# Altium integrated library FPGA Generic.IntLib: 1651 symbols (part 6 of 20)
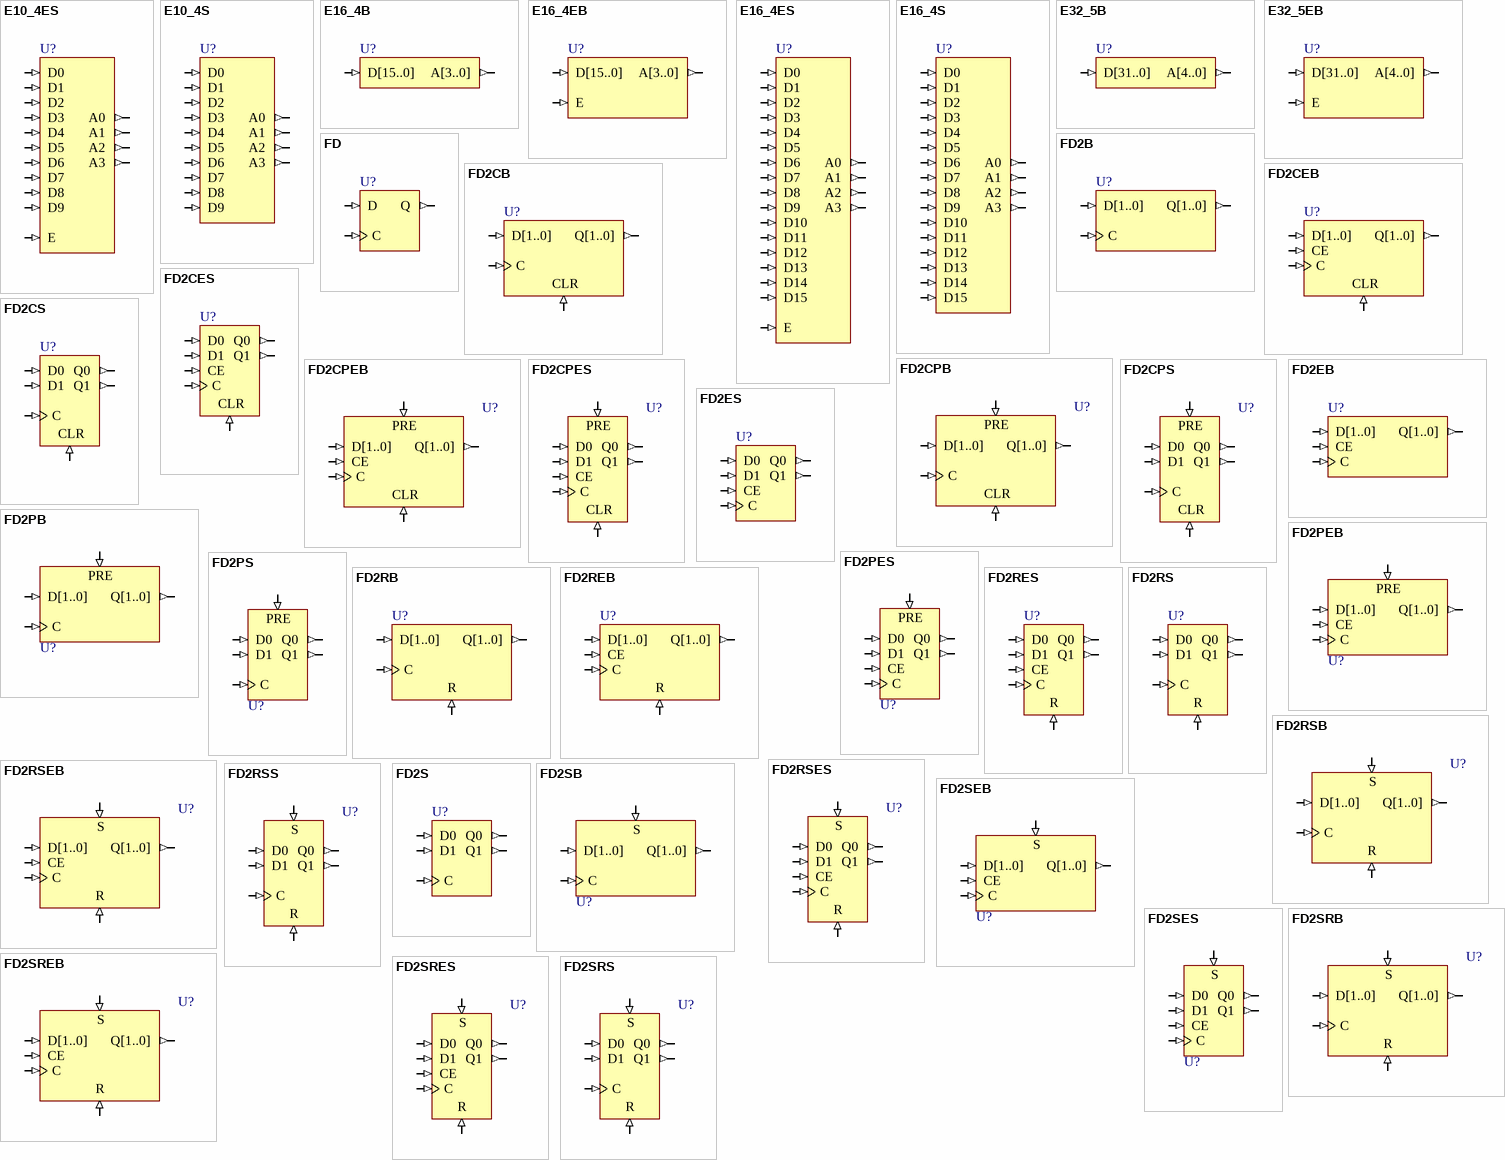
[diagram p48: symbols E10_4ES to FD2SRS]

## FD2RSS
designator U?
2-Bit D-Type Flip-Flop with Synchronous Reset and Set, Single Pin Version; SubClass: FD; ClockTrigger: Rising; PortSize: 2; ArchiveName: GENERIC; VHDLIB_SIM: GENERIC_LIB; Published: 29-Jan-2004; Publisher: Altium Limited; LastRevisionNo: 1.00.00; HelpURL: CR0118 FPGA Generic Library Guide.pdf#page=205; ComponentLink1URL: CR0133 FPGA Flip Flop Resource Usage.pdf#page=27; ComponentLink1Description: Core &Resource Usage; FunctionalClass: Flip-Flop; Reset: Synchronous; Set: Synchronous; PortStyle: Single Pin Version
pins: C (in), D0 (in), D1 (in), Q0 (out), Q1 (out), R (in), S (in)

## FD2S
designator U?
2-Bit D-Type Flip-Flop, Single Pin Version; SubClass: FD; ClockTrigger: Rising; PortSize: 2; ArchiveName: GENERIC; VHDLIB_SIM: GENERIC_LIB; Published: 29-Jan-2004; Publisher: Altium Limited; LastRevisionNo: 1.00.00; HelpURL: CR0118 FPGA Generic Library Guide.pdf#page=170; ComponentLink1URL: CR0133 FPGA Flip Flop Resource Usage.pdf#page=28; ComponentLink1Description: Core &Resource Usage; FunctionalClass: Flip-Flop; PortStyle: Single Pin Version
pins: C (in), D0 (in), D1 (in), Q0 (out), Q1 (out)

## FD2SB
designator U?
2-Bit D-Type Flip-Flop with Synchronous Set, Bus Version; SubClass: FD; ClockTrigger: Rising; PortSize: 2; ArchiveName: GENERIC; VHDLIB_SIM: GENERIC_LIB; Published: 29-Jan-2004; Publisher: Altium Limited; LastRevisionNo: 1.00.00; HelpURL: CR0118 FPGA Generic Library Guide.pdf#page=213; ComponentLink1URL: CR0133 FPGA Flip Flop Resource Usage.pdf#page=29; ComponentLink1Description: Core &Resource Usage; FunctionalClass: Flip-Flop; Set: Synchronous; PortStyle: Bus Version
pins: C (in), D[1..0] (in), Q[1..0] (out), S (in)

## FD2SEB
designator U?
2-Bit D-Type Flip-Flop with Clock Enable and Synchronous Set, Bus Version; SubClass: FD; ClockTrigger: Rising; Enable: High; PortSize: 2; ArchiveName: GENERIC; VHDLIB_SIM: GENERIC_LIB; Published: 29-Jan-2004; Publisher: Altium Limited; LastRevisionNo: 1.00.00; HelpURL: CR0118 FPGA Generic Library Guide.pdf#page=215; ComponentLink1URL: CR0133 FPGA Flip Flop Resource Usage.pdf#page=30; ComponentLink1Description: Core &Resource Usage; FunctionalClass: Flip-Flop; Set: Synchronous; PortStyle: Bus Version
pins: C (in), CE (in), D[1..0] (in), Q[1..0] (out), S (in)

## FD2SES
designator U?
2-Bit D-Type Flip-Flop with Clock Enable and Synchronous Set, Single Pin Version; SubClass: FD; ClockTrigger: Rising; Enable: High; PortSize: 2; ArchiveName: GENERIC; VHDLIB_SIM: GENERIC_LIB; Published: 29-Jan-2004; Publisher: Altium Limited; LastRevisionNo: 1.00.00; HelpURL: CR0118 FPGA Generic Library Guide.pdf#page=215; ComponentLink1URL: CR0133 FPGA Flip Flop Resource Usage.pdf#page=31; ComponentLink1Description: Core &Resource Usage; FunctionalClass: Flip-Flop; Set: Synchronous; PortStyle: Single Pin Version
pins: C (in), CE (in), D0 (in), D1 (in), Q0 (out), Q1 (out), S (in)

## FD2SRB
designator U?
2-Bit D-Type Flip-Flop with Synchronous Set and Reset, Bus Version; SubClass: FD; ClockTrigger: Rising; PortSize: 2; ArchiveName: GENERIC; VHDLIB_SIM: GENERIC_LIB; Published: 29-Jan-2004; Publisher: Altium Limited; LastRevisionNo: 1.00.00; HelpURL: CR0118 FPGA Generic Library Guide.pdf#page=220; ComponentLink1URL: CR0133 FPGA Flip Flop Resource Usage.pdf#page=32; ComponentLink1Description: Core &Resource Usage; FunctionalClass: Flip-Flop; Reset: Synchronous; Set: Synchronous; PortStyle: Bus Version
pins: C (in), D[1..0] (in), Q[1..0] (out), R (in), S (in)

## FD2SREB
designator U?
2-Bit D-Type Flip-Flop with Synchronous Set and Reset and Clock Enable, Bus Version; SubClass: FD; ClockTrigger: Rising; Enable: High; PortSize: 2; ArchiveName: GENERIC; VHDLIB_SIM: GENERIC_LIB; Published: 29-Jan-2004; Publisher: Altium Limited; LastRevisionNo: 1.00.00; HelpURL: CR0118 FPGA Generic Library Guide.pdf#page=223; ComponentLink1URL: CR0133 FPGA Flip Flop Resource Usage.pdf#page=33; ComponentLink1Description: Core &Resource Usage; FunctionalClass: Flip-Flop; Reset: Synchronous; Set: Synchronous; PortStyle: Bus Version
pins: C (in), CE (in), D[1..0] (in), Q[1..0] (out), R (in), S (in)

## FD2SRES
designator U?
2-Bit D-Type Flip-Flop with Synchronous Set and Reset and Clock Enable, Single Pin Version; SubClass: FD; ClockTrigger: Rising; Enable: High; PortSize: 2; ArchiveName: GENERIC; VHDLIB_SIM: GENERIC_LIB; Published: 29-Jan-2004; Publisher: Altium Limited; LastRevisionNo: 1.00.00; HelpURL: CR0118 FPGA Generic Library Guide.pdf#page=223; ComponentLink1URL: CR0133 FPGA Flip Flop Resource Usage.pdf#page=34; ComponentLink1Description: Core &Resource Usage; FunctionalClass: Flip-Flop; Reset: Synchronous; Set: Synchronous; PortStyle: Single Pin Version
pins: C (in), CE (in), D0 (in), D1 (in), Q0 (out), Q1 (out), R (in), S (in)

## FD2SRS
designator U?
2-Bit D-Type Flip-Flop with Synchronous Set and Reset, Single Pin Version; SubClass: FD; ClockTrigger: Rising; PortSize: 2; ArchiveName: GENERIC; VHDLIB_SIM: GENERIC_LIB; Published: 29-Jan-2004; Publisher: Altium Limited; LastRevisionNo: 1.00.00; HelpURL: CR0118 FPGA Generic Library Guide.pdf#page=220; ComponentLink1URL: CR0133 FPGA Flip Flop Resource Usage.pdf#page=35; ComponentLink1Description: Core &Resource Usage; FunctionalClass: Flip-Flop; Reset: Synchronous; Set: Synchronous; PortStyle: Single Pin Version
pins: C (in), D0 (in), D1 (in), Q0 (out), Q1 (out), R (in), S (in)

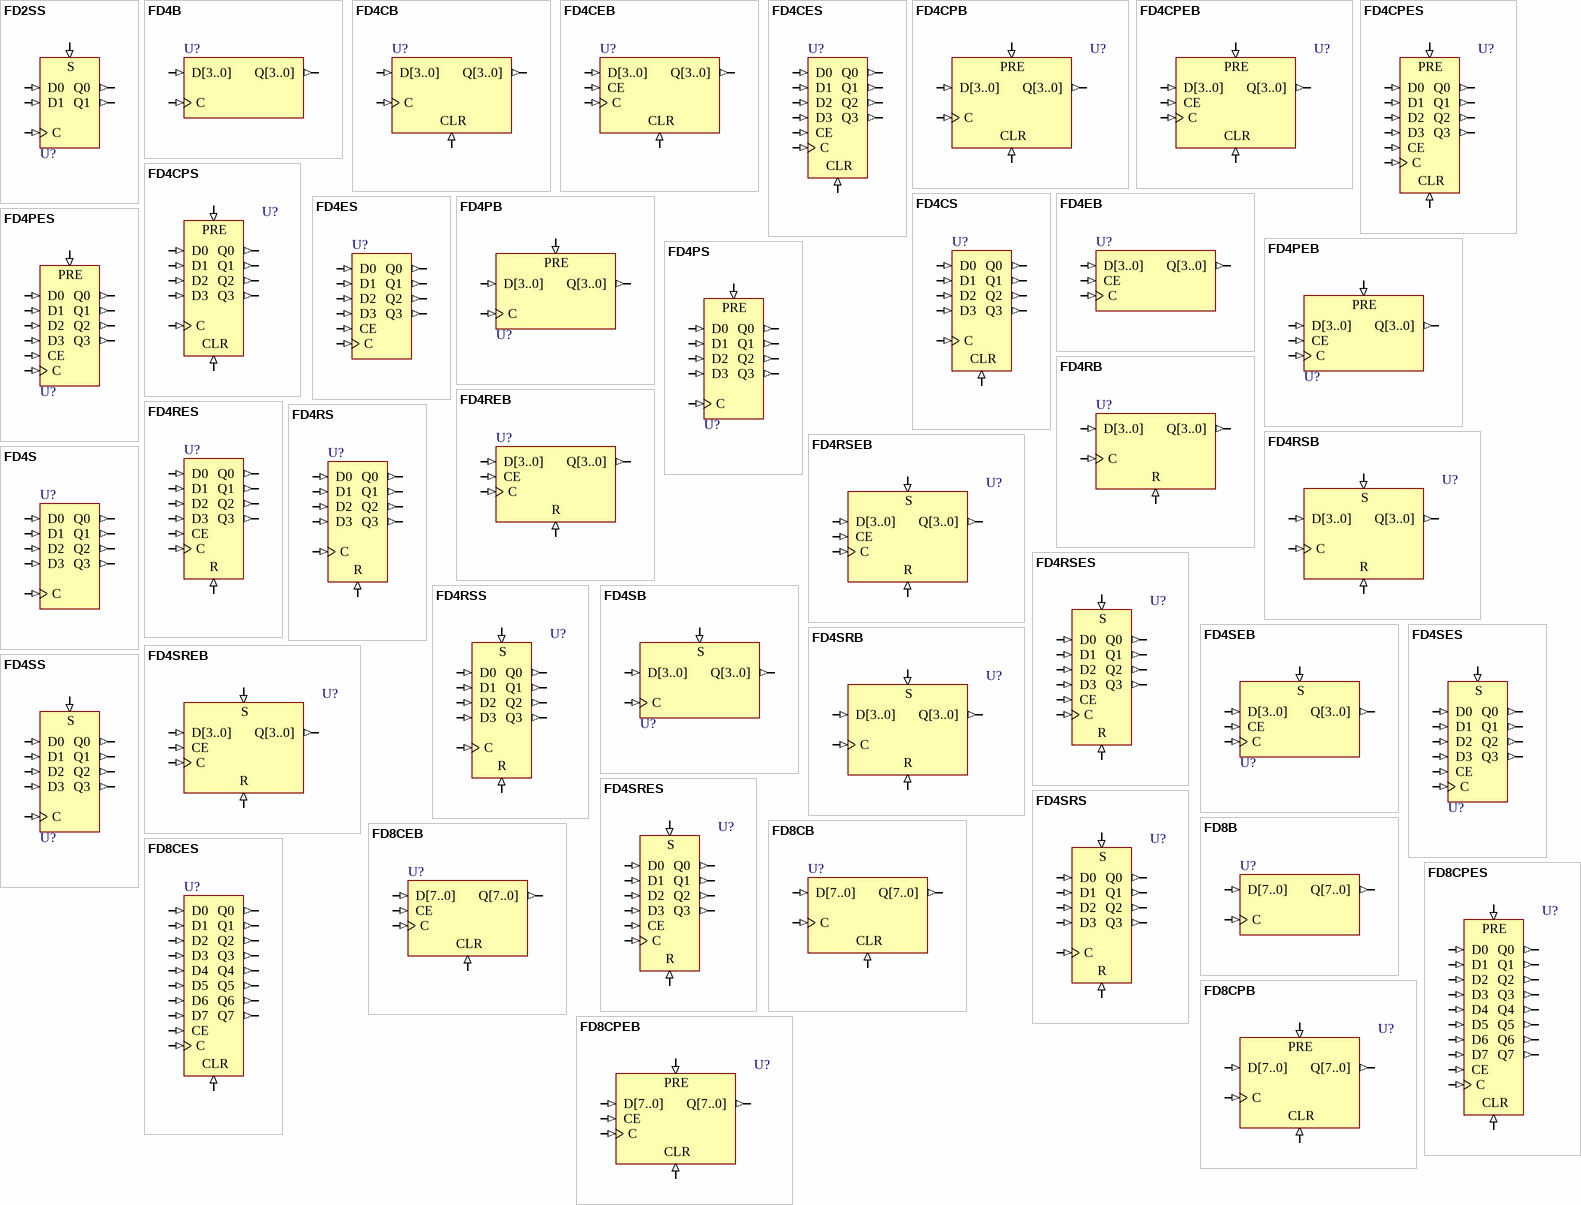
[diagram p11: symbols FD2SS to FD8CPES]

## FD2SS
designator U?
2-Bit D-Type Flip-Flop with Synchronous Set, Single Pin Version; SubClass: FD; ClockTrigger: Rising; PortSize: 2; ArchiveName: GENERIC; VHDLIB_SIM: GENERIC_LIB; Published: 29-Jan-2004; Publisher: Altium Limited; LastRevisionNo: 1.00.00; HelpURL: CR0118 FPGA Generic Library Guide.pdf#page=213; ComponentLink1URL: CR0133 FPGA Flip Flop Resource Usage.pdf#page=36; ComponentLink1Description: Core &Resource Usage; FunctionalClass: Flip-Flop; Set: Synchronous; PortStyle: Single Pin Version
pins: C (in), D0 (in), D1 (in), Q0 (out), Q1 (out), S (in)

## FD4B
designator U?
4-Bit D-Type Flip-Flop, Bus Version; SubClass: FD; ClockTrigger: Rising; PortSize: 4; ArchiveName: GENERIC; VHDLIB_SIM: GENERIC_LIB; Published: 29-Jan-2004; Publisher: Altium Limited; LastRevisionNo: 1.00.00; HelpURL: CR0118 FPGA Generic Library Guide.pdf#page=170; ComponentLink1URL: CR0133 FPGA Flip Flop Resource Usage.pdf#page=37; ComponentLink1Description: Core &Resource Usage; FunctionalClass: Flip-Flop; PortStyle: Bus Version
pins: C (in), D[3..0] (in), Q[3..0] (out)

## FD4CB
designator U?
4-Bit D-Type Flip-Flop with Asynchronous Clear, Bus Version; SubClass: FD; ClockTrigger: Rising; PortSize: 4; ArchiveName: GENERIC; VHDLIB_SIM: GENERIC_LIB; Published: 29-Jan-2004; Publisher: Altium Limited; LastRevisionNo: 1.00.00; HelpURL: CR0118 FPGA Generic Library Guide.pdf#page=172; ComponentLink1URL: CR0133 FPGA Flip Flop Resource Usage.pdf#page=38; ComponentLink1Description: Core &Resource Usage; FunctionalClass: Flip-Flop; Reset: Asynchronous; PortStyle: Bus Version
pins: C (in), CLR (in), D[3..0] (in), Q[3..0] (out)

## FD4CEB
designator U?
4-Bit D-Type Flip-Flop with Clock Enable and Asynchronous Clear, Bus Version; SubClass: FD; ClockTrigger: Rising; Enable: High; PortSize: 4; ArchiveName: GENERIC; VHDLIB_SIM: GENERIC_LIB; Published: 29-Jan-2004; Publisher: Altium Limited; LastRevisionNo: 1.00.00; HelpURL: CR0118 FPGA Generic Library Guide.pdf#page=174; ComponentLink1URL: CR0133 FPGA Flip Flop Resource Usage.pdf#page=39; ComponentLink1Description: Core &Resource Usage; FunctionalClass: Flip-Flop; Reset: Asynchronous; PortStyle: Bus Version
pins: C (in), CE (in), CLR (in), D[3..0] (in), Q[3..0] (out)

## FD4CES
designator U?
4-Bit D-Type Flip-Flop with Clock Enable and Asynchronous Clear, Single Pin Version; XilinxEquivalent: FD4CE; SubClass: FD; ClockTrigger: Rising; Enable: High; PortSize: 4; ArchiveName: GENERIC; VHDLIB_SIM: GENERIC_LIB; Published: 29-Jan-2004; Publisher: Altium Limited; LastRevisionNo: 1.00.00; HelpURL: CR0118 FPGA Generic Library Guide.pdf#page=174; ComponentLink1URL: CR0133 FPGA Flip Flop Resource Usage.pdf#page=40; ComponentLink1Description: Core &Resource Usage; FunctionalClass: Flip-Flop; Reset: Asynchronous; PortStyle: Single Pin Version
pins: C (in), CE (in), CLR (in), D0 (in), D1 (in), D2 (in), D3 (in), Q0 (out), Q1 (out), Q2 (out), Q3 (out)

## FD4CPB
designator U?
4-Bit D-Type Flip-Flop with Asynchronous Preset and Clear, Bus Version; SubClass: FD; ClockTrigger: Rising; PortSize: 4; ArchiveName: GENERIC; VHDLIB_SIM: GENERIC_LIB; Published: 29-Jan-2004; Publisher: Altium Limited; LastRevisionNo: 1.00.00; HelpURL: CR0118 FPGA Generic Library Guide.pdf#page=179; ComponentLink1URL: CR0133 FPGA Flip Flop Resource Usage.pdf#page=41; ComponentLink1Description: Core &Resource Usage; FunctionalClass: Flip-Flop; Reset: Asynchronous; Set: Asynchronous; PortStyle: Bus Version
pins: C (in), CLR (in), D[3..0] (in), PRE (in), Q[3..0] (out)

## FD4CPEB
designator U?
4-Bit D-Type Flip-Flop with Clock Enable and Asynchronous Preset and Clear, Bus Version; SubClass: FD; ClockTrigger: Rising; Enable: High; PortSize: 4; ArchiveName: GENERIC; VHDLIB_SIM: GENERIC_LIB; Published: 29-Jan-2004; Publisher: Altium Limited; LastRevisionNo: 1.00.00; HelpURL: CR0118 FPGA Generic Library Guide.pdf#page=182; ComponentLink1URL: CR0133 FPGA Flip Flop Resource Usage.pdf#page=42; ComponentLink1Description: Core &Resource Usage; FunctionalClass: Flip-Flop; Reset: Asynchronous; Set: Asynchronous; PortStyle: Bus Version
pins: C (in), CE (in), CLR (in), D[3..0] (in), PRE (in), Q[3..0] (out)

## FD4CPES
designator U?
4-Bit D-Type Flip-Flop with Clock Enable and Asynchronous Preset and Clear, Single Pin Version; SubClass: FD; ClockTrigger: Rising; Enable: High; PortSize: 4; ArchiveName: GENERIC; VHDLIB_SIM: GENERIC_LIB; Published: 29-Jan-2004; Publisher: Altium Limited; LastRevisionNo: 1.00.00; HelpURL: CR0118 FPGA Generic Library Guide.pdf#page=182; ComponentLink1URL: CR0133 FPGA Flip Flop Resource Usage.pdf#page=43; ComponentLink1Description: Core &Resource Usage; FunctionalClass: Flip-Flop; Reset: Asynchronous; Set: Asynchronous; PortStyle: Single Pin Version
pins: C (in), CE (in), CLR (in), D0 (in), D1 (in), D2 (in), D3 (in), PRE (in), Q0 (out), Q1 (out), Q2 (out), Q3 (out)

## FD4CPS
designator U?
4-Bit D-Type Flip-Flop with Asynchronous Preset and Clear, Single Pin Version; SubClass: FD; ClockTrigger: Rising; PortSize: 4; ArchiveName: GENERIC; VHDLIB_SIM: GENERIC_LIB; Published: 29-Jan-2004; Publisher: Altium Limited; LastRevisionNo: 1.00.00; HelpURL: CR0118 FPGA Generic Library Guide.pdf#page=179; ComponentLink1URL: CR0133 FPGA Flip Flop Resource Usage.pdf#page=44; ComponentLink1Description: Core &Resource Usage; FunctionalClass: Flip-Flop; Reset: Asynchronous; Set: Asynchronous; PortStyle: Single Pin Version
pins: C (in), CLR (in), D0 (in), D1 (in), D2 (in), D3 (in), PRE (in), Q0 (out), Q1 (out), Q2 (out), Q3 (out)

## FD4CS
designator U?
4-Bit D-Type Flip-Flop with Asynchronous Clear, Single Pin Version; SubClass: FD; ClockTrigger: Rising; PortSize: 4; ArchiveName: GENERIC; VHDLIB_SIM: GENERIC_LIB; Published: 29-Jan-2004; Publisher: Altium Limited; LastRevisionNo: 1.00.00; HelpURL: CR0118 FPGA Generic Library Guide.pdf#page=172; ComponentLink1URL: CR0133 FPGA Flip Flop Resource Usage.pdf#page=45; ComponentLink1Description: Core &Resource Usage; FunctionalClass: Flip-Flop; Reset: Asynchronous; PortStyle: Single Pin Version
pins: C (in), CLR (in), D0 (in), D1 (in), D2 (in), D3 (in), Q0 (out), Q1 (out), Q2 (out), Q3 (out)

## FD4EB
designator U?
4-Bit D Flip-Flop with Clock Enable, Bus Version; SubClass: FD; ClockTrigger: Rising; Enable: High; PortSize: 4; ArchiveName: GENERIC; VHDLIB_SIM: GENERIC_LIB; Published: 29-Jan-2004; Publisher: Altium Limited; LastRevisionNo: 1.00.00; HelpURL: CR0118 FPGA Generic Library Guide.pdf#page=187; ComponentLink1URL: CR0133 FPGA Flip Flop Resource Usage.pdf#page=46; ComponentLink1Description: Core &Resource Usage; FunctionalClass: Flip-Flop; PortStyle: Bus Version
pins: C (in), CE (in), D[3..0] (in), Q[3..0] (out)

## FD4ES
designator U?
4-Bit D Flip-Flop with Clock Enable, Single Pin Version; SubClass: FD; ClockTrigger: Rising; Enable: High; PortSize: 4; ArchiveName: GENERIC; VHDLIB_SIM: GENERIC_LIB; Published: 29-Jan-2004; Publisher: Altium Limited; LastRevisionNo: 1.00.00; HelpURL: CR0118 FPGA Generic Library Guide.pdf#page=187; ComponentLink1URL: CR0133 FPGA Flip Flop Resource Usage.pdf#page=47; ComponentLink1Description: Core &Resource Usage; FunctionalClass: Flip-Flop; PortStyle: Single Pin Version
pins: C (in), CE (in), D0 (in), D1 (in), D2 (in), D3 (in), Q0 (out), Q1 (out), Q2 (out), Q3 (out)

## FD4PB
designator U?
4-Bit D-Type Flip-Flop with Asynchronous Preset, Bus Version; SubClass: FD; ClockTrigger: Rising; PortSize: 4; ArchiveName: GENERIC; VHDLIB_SIM: GENERIC_LIB; Published: 29-Jan-2004; Publisher: Altium Limited; LastRevisionNo: 1.00.00; HelpURL: CR0118 FPGA Generic Library Guide.pdf#page=191; ComponentLink1URL: CR0133 FPGA Flip Flop Resource Usage.pdf#page=48; ComponentLink1Description: Core &Resource Usage; FunctionalClass: Flip-Flop; Set: Asynchronous; PortStyle: Bus Version
pins: C (in), D[3..0] (in), PRE (in), Q[3..0] (out)

## FD4PEB
designator U?
4-Bit D-Type Flip-Flop with Clock Enable and Asynchronous Preset, Bus Version; SubClass: FD; ClockTrigger: Rising; Enable: High; PortSize: 4; ArchiveName: GENERIC; VHDLIB_SIM: GENERIC_LIB; Published: 29-Jan-2004; Publisher: Altium Limited; LastRevisionNo: 1.00.00; HelpURL: CR0118 FPGA Generic Library Guide.pdf#page=193; ComponentLink1URL: CR0133 FPGA Flip Flop Resource Usage.pdf#page=49; ComponentLink1Description: Core &Resource Usage; FunctionalClass: Flip-Flop; Set: Asynchronous; PortStyle: Bus Version
pins: C (in), CE (in), D[3..0] (in), PRE (in), Q[3..0] (out)

## FD4PES
designator U?
4-Bit D-Type Flip-Flop with Clock Enable and Asynchronous Preset, Single Pin Version; SubClass: FD; ClockTrigger: Rising; Enable: High; PortSize: 4; ArchiveName: GENERIC; VHDLIB_SIM: GENERIC_LIB; Published: 29-Jan-2004; Publisher: Altium Limited; LastRevisionNo: 1.00.00; HelpURL: CR0118 FPGA Generic Library Guide.pdf#page=193; ComponentLink1URL: CR0133 FPGA Flip Flop Resource Usage.pdf#page=50; ComponentLink1Description: Core &Resource Usage; FunctionalClass: Flip-Flop; Set: Asynchronous; PortStyle: Single Pin Version
pins: C (in), CE (in), D0 (in), D1 (in), D2 (in), D3 (in), PRE (in), Q0 (out), Q1 (out), Q2 (out), Q3 (out)

## FD4PS
designator U?
4-Bit D-Type Flip-Flop with Asynchronous Preset, Single Pin Version; SubClass: FD; ClockTrigger: Rising; PortSize: 4; ArchiveName: GENERIC; VHDLIB_SIM: GENERIC_LIB; Published: 29-Jan-2004; Publisher: Altium Limited; LastRevisionNo: 1.00.00; HelpURL: CR0118 FPGA Generic Library Guide.pdf#page=191; ComponentLink1URL: CR0133 FPGA Flip Flop Resource Usage.pdf#page=51; ComponentLink1Description: Core &Resource Usage; FunctionalClass: Flip-Flop; Set: Asynchronous; PortStyle: Single Pin Version
pins: C (in), D0 (in), D1 (in), D2 (in), D3 (in), PRE (in), Q0 (out), Q1 (out), Q2 (out), Q3 (out)

## FD4RB
designator U?
4-Bit D-Type Flip-Flop with Synchronous Reset, Bus Version; SubClass: FD; ClockTrigger: Rising; PortSize: 4; ArchiveName: GENERIC; VHDLIB_SIM: GENERIC_LIB; Published: 29-Jan-2004; Publisher: Altium Limited; LastRevisionNo: 1.00.00; HelpURL: CR0118 FPGA Generic Library Guide.pdf#page=198; ComponentLink1URL: CR0133 FPGA Flip Flop Resource Usage.pdf#page=52; ComponentLink1Description: Core &Resource Usage; FunctionalClass: Flip-Flop; Reset: Synchronous; PortStyle: Bus Version
pins: C (in), D[3..0] (in), Q[3..0] (out), R (in)

## FD4REB
designator U?
4-Bit D-Type Flip-Flop with Clock Enable and Synchronous Reset, Bus Version; SubClass: FD; ClockTrigger: Rising; Enable: High; PortSize: 4; ArchiveName: GENERIC; VHDLIB_SIM: GENERIC_LIB; Published: 29-Jan-2004; Publisher: Altium Limited; LastRevisionNo: 1.00.00; HelpURL: CR0118 FPGA Generic Library Guide.pdf#page=200; ComponentLink1URL: CR0133 FPGA Flip Flop Resource Usage.pdf#page=53; ComponentLink1Description: Core &Resource Usage; FunctionalClass: Flip-Flop; Reset: Synchronous; PortStyle: Bus Version
pins: C (in), CE (in), D[3..0] (in), Q[3..0] (out), R (in)

## FD4RES
designator U?
4-Bit D-Type Flip-Flop with Clock Enable and Synchronous Reset, Single Pin Version; XilinxEquivalent: FD4RE; SubClass: FD; ClockTrigger: Rising; Enable: High; PortSize: 4; ArchiveName: GENERIC; VHDLIB_SIM: GENERIC_LIB; Published: 29-Jan-2004; Publisher: Altium Limited; LastRevisionNo: 1.00.00; HelpURL: CR0118 FPGA Generic Library Guide.pdf#page=200; ComponentLink1URL: CR0133 FPGA Flip Flop Resource Usage.pdf#page=54; ComponentLink1Description: Core &Resource Usage; FunctionalClass: Flip-Flop; Reset: Synchronous; PortStyle: Single Pin Version
pins: C (in), CE (in), D0 (in), D1 (in), D2 (in), D3 (in), Q0 (out), Q1 (out), Q2 (out), Q3 (out), R (in)

## FD4RS
designator U?
4-Bit D-Type Flip-Flop with Synchronous Reset, Single Pin Version; SubClass: FD; ClockTrigger: Rising; PortSize: 4; ArchiveName: GENERIC; VHDLIB_SIM: GENERIC_LIB; Published: 29-Jan-2004; Publisher: Altium Limited; LastRevisionNo: 1.00.00; HelpURL: CR0118 FPGA Generic Library Guide.pdf#page=198; ComponentLink1URL: CR0133 FPGA Flip Flop Resource Usage.pdf#page=55; ComponentLink1Description: Core &Resource Usage; FunctionalClass: Flip-Flop; Reset: Synchronous; PortStyle: Single Pin Version
pins: C (in), D0 (in), D1 (in), D2 (in), D3 (in), Q0 (out), Q1 (out), Q2 (out), Q3 (out), R (in)

## FD4RSB
designator U?
4-Bit D-Type Flip-Flop with Synchronous Reset and Set, Bus Version; SubClass: FD; ClockTrigger: Rising; PortSize: 4; ArchiveName: GENERIC; VHDLIB_SIM: GENERIC_LIB; Published: 29-Jan-2004; Publisher: Altium Limited; LastRevisionNo: 1.00.00; HelpURL: CR0118 FPGA Generic Library Guide.pdf#page=205; ComponentLink1URL: CR0133 FPGA Flip Flop Resource Usage.pdf#page=56; ComponentLink1Description: Core &Resource Usage; FunctionalClass: Flip-Flop; Reset: Synchronous; Set: Synchronous; PortStyle: Bus Version
pins: C (in), D[3..0] (in), Q[3..0] (out), R (in), S (in)

## FD4RSEB
designator U?
4-Bit D-Type Flip-Flop with Synchronous Reset and Set and Clock Enable, Bus Version; SubClass: FD; ClockTrigger: Rising; Enable: High; PortSize: 4; ArchiveName: GENERIC; VHDLIB_SIM: GENERIC_LIB; Published: 29-Jan-2004; Publisher: Altium Limited; LastRevisionNo: 1.00.00; HelpURL: CR0118 FPGA Generic Library Guide.pdf#page=208; ComponentLink1URL: CR0133 FPGA Flip Flop Resource Usage.pdf#page=57; ComponentLink1Description: Core &Resource Usage; FunctionalClass: Flip-Flop; Reset: Synchronous; Set: Synchronous; PortStyle: Bus Version
pins: C (in), CE (in), D[3..0] (in), Q[3..0] (out), R (in), S (in)

## FD4RSES
designator U?
4-Bit D-Type Flip-Flop with Synchronous Reset and Set and Clock Enable, Single Pin Version; SubClass: FD; ClockTrigger: Rising; Enable: High; PortSize: 4; ArchiveName: GENERIC; VHDLIB_SIM: GENERIC_LIB; Published: 29-Jan-2004; Publisher: Altium Limited; LastRevisionNo: 1.00.00; HelpURL: CR0118 FPGA Generic Library Guide.pdf#page=208; ComponentLink1URL: CR0133 FPGA Flip Flop Resource Usage.pdf#page=58; ComponentLink1Description: Core &Resource Usage; FunctionalClass: Flip-Flop; Reset: Synchronous; Set: Synchronous; PortStyle: Single Pin Version
pins: C (in), CE (in), D0 (in), D1 (in), D2 (in), D3 (in), Q0 (out), Q1 (out), Q2 (out), Q3 (out), R (in), S (in)

## FD4RSS
designator U?
4-Bit D-Type Flip-Flop with Synchronous Reset and Set, Single Pin Version; SubClass: FD; ClockTrigger: Rising; PortSize: 4; ArchiveName: GENERIC; VHDLIB_SIM: GENERIC_LIB; Published: 29-Jan-2004; Publisher: Altium Limited; LastRevisionNo: 1.00.00; HelpURL: CR0118 FPGA Generic Library Guide.pdf#page=205; ComponentLink1URL: CR0133 FPGA Flip Flop Resource Usage.pdf#page=59; ComponentLink1Description: Core &Resource Usage; FunctionalClass: Flip-Flop; Reset: Synchronous; Set: Synchronous; PortStyle: Single Pin Version
pins: C (in), D0 (in), D1 (in), D2 (in), D3 (in), Q0 (out), Q1 (out), Q2 (out), Q3 (out), R (in), S (in)

## FD4S
designator U?
4-Bit D-Type Flip-Flop, Single Pin Version; XilinxEquivalent: FD4; SubClass: FD; ClockTrigger: Rising; PortSize: 4; ArchiveName: GENERIC; VHDLIB_SIM: GENERIC_LIB; Published: 29-Jan-2004; Publisher: Altium Limited; LastRevisionNo: 1.00.00; HelpURL: CR0118 FPGA Generic Library Guide.pdf#page=170; ComponentLink1URL: CR0133 FPGA Flip Flop Resource Usage.pdf#page=60; ComponentLink1Description: Core &Resource Usage; FunctionalClass: Flip-Flop; PortStyle: Single Pin Version
pins: C (in), D0 (in), D1 (in), D2 (in), D3 (in), Q0 (out), Q1 (out), Q2 (out), Q3 (out)

## FD4SB
designator U?
4-Bit D-Type Flip-Flop with Synchronous Set, Bus Version; SubClass: FD; ClockTrigger: Rising; PortSize: 4; ArchiveName: GENERIC; VHDLIB_SIM: GENERIC_LIB; Published: 29-Jan-2004; Publisher: Altium Limited; LastRevisionNo: 1.00.00; HelpURL: CR0118 FPGA Generic Library Guide.pdf#page=213; ComponentLink1URL: CR0133 FPGA Flip Flop Resource Usage.pdf#page=61; ComponentLink1Description: Core &Resource Usage; FunctionalClass: Flip-Flop; Set: Synchronous; PortStyle: Bus Version
pins: C (in), D[3..0] (in), Q[3..0] (out), S (in)

## FD4SEB
designator U?
4-Bit D-Type Flip-Flop with Clock Enable and Synchronous Set, Bus Version; SubClass: FD; ClockTrigger: Rising; Enable: High; PortSize: 4; ArchiveName: GENERIC; VHDLIB_SIM: GENERIC_LIB; Published: 29-Jan-2004; Publisher: Altium Limited; LastRevisionNo: 1.00.00; HelpURL: CR0118 FPGA Generic Library Guide.pdf#page=215; ComponentLink1URL: CR0133 FPGA Flip Flop Resource Usage.pdf#page=62; ComponentLink1Description: Core &Resource Usage; FunctionalClass: Flip-Flop; Set: Synchronous; PortStyle: Bus Version
pins: C (in), CE (in), D[3..0] (in), Q[3..0] (out), S (in)

## FD4SES
designator U?
4-Bit D-Type Flip-Flop with Clock Enable and Synchronous Set, Single Pin Version; SubClass: FD; ClockTrigger: Rising; Enable: High; PortSize: 4; ArchiveName: GENERIC; VHDLIB_SIM: GENERIC_LIB; Published: 29-Jan-2004; Publisher: Altium Limited; LastRevisionNo: 1.00.00; HelpURL: CR0118 FPGA Generic Library Guide.pdf#page=215; ComponentLink1URL: CR0133 FPGA Flip Flop Resource Usage.pdf#page=63; ComponentLink1Description: Core &Resource Usage; FunctionalClass: Flip-Flop; Set: Synchronous; PortStyle: Single Pin Version
pins: C (in), CE (in), D0 (in), D1 (in), D2 (in), D3 (in), Q0 (out), Q1 (out), Q2 (out), Q3 (out), S (in)

## FD4SRB
designator U?
4-Bit D-Type Flip-Flop with Synchronous Set and Reset, Bus Version; SubClass: FD; ClockTrigger: Rising; PortSize: 4; ArchiveName: GENERIC; VHDLIB_SIM: GENERIC_LIB; Published: 29-Jan-2004; Publisher: Altium Limited; LastRevisionNo: 1.00.00; HelpURL: CR0118 FPGA Generic Library Guide.pdf#page=220; ComponentLink1URL: CR0133 FPGA Flip Flop Resource Usage.pdf#page=64; ComponentLink1Description: Core &Resource Usage; FunctionalClass: Flip-Flop; Reset: Synchronous; Set: Synchronous; PortStyle: Bus Version
pins: C (in), D[3..0] (in), Q[3..0] (out), R (in), S (in)

## FD4SREB
designator U?
4-Bit D-Type Flip-Flop with Synchronous Set and Reset and Clock Enable, Bus Version; SubClass: FD; ClockTrigger: Rising; Enable: High; PortSize: 4; ArchiveName: GENERIC; VHDLIB_SIM: GENERIC_LIB; Published: 29-Jan-2004; Publisher: Altium Limited; LastRevisionNo: 1.00.00; HelpURL: CR0118 FPGA Generic Library Guide.pdf#page=223; ComponentLink1URL: CR0133 FPGA Flip Flop Resource Usage.pdf#page=65; ComponentLink1Description: Core &Resource Usage; FunctionalClass: Flip-Flop; Reset: Synchronous; Set: Synchronous; PortStyle: Bus Version
pins: C (in), CE (in), D[3..0] (in), Q[3..0] (out), R (in), S (in)

## FD4SRES
designator U?
4-Bit D-Type Flip-Flop with Synchronous Set and Reset and Clock Enable, Single Pin Version; SubClass: FD; ClockTrigger: Rising; Enable: High; PortSize: 4; ArchiveName: GENERIC; VHDLIB_SIM: GENERIC_LIB; Published: 29-Jan-2004; Publisher: Altium Limited; LastRevisionNo: 1.00.00; HelpURL: CR0118 FPGA Generic Library Guide.pdf#page=223; ComponentLink1URL: CR0133 FPGA Flip Flop Resource Usage.pdf#page=66; ComponentLink1Description: Core &Resource Usage; FunctionalClass: Flip-Flop; Reset: Synchronous; Set: Synchronous; PortStyle: Single Pin Version
pins: C (in), CE (in), D0 (in), D1 (in), D2 (in), D3 (in), Q0 (out), Q1 (out), Q2 (out), Q3 (out), R (in), S (in)

## FD4SRS
designator U?
4-Bit D-Type Flip-Flop with Synchronous Set and Reset, Single Pin Version; SubClass: FD; ClockTrigger: Rising; PortSize: 4; ArchiveName: GENERIC; VHDLIB_SIM: GENERIC_LIB; Published: 29-Jan-2004; Publisher: Altium Limited; LastRevisionNo: 1.00.00; HelpURL: CR0118 FPGA Generic Library Guide.pdf#page=220; ComponentLink1URL: CR0133 FPGA Flip Flop Resource Usage.pdf#page=67; ComponentLink1Description: Core &Resource Usage; FunctionalClass: Flip-Flop; Reset: Synchronous; Set: Synchronous; PortStyle: Single Pin Version
pins: C (in), D0 (in), D1 (in), D2 (in), D3 (in), Q0 (out), Q1 (out), Q2 (out), Q3 (out), R (in), S (in)

## FD4SS
designator U?
4-Bit D-Type Flip-Flop with Synchronous Set, Single Pin Version; SubClass: FD; ClockTrigger: Rising; PortSize: 4; ArchiveName: GENERIC; VHDLIB_SIM: GENERIC_LIB; Published: 29-Jan-2004; Publisher: Altium Limited; LastRevisionNo: 1.00.00; HelpURL: CR0118 FPGA Generic Library Guide.pdf#page=213; ComponentLink1URL: CR0133 FPGA Flip Flop Resource Usage.pdf#page=68; ComponentLink1Description: Core &Resource Usage; FunctionalClass: Flip-Flop; Set: Synchronous; PortStyle: Single Pin Version
pins: C (in), D0 (in), D1 (in), D2 (in), D3 (in), Q0 (out), Q1 (out), Q2 (out), Q3 (out), S (in)

## FD8B
designator U?
8-Bit D-Type Flip-Flop, Bus Version; XilinxEquivalent: FD8; SubClass: FD; ClockTrigger: Rising; PortSize: 8; ArchiveName: GENERIC; VHDLIB_SIM: GENERIC_LIB; Published: 29-Jan-2004; Publisher: Altium Limited; LastRevisionNo: 1.00.00; HelpURL: CR0118 FPGA Generic Library Guide.pdf#page=170; ComponentLink1URL: CR0133 FPGA Flip Flop Resource Usage.pdf#page=69; ComponentLink1Description: Core &Resource Usage; FunctionalClass: Flip-Flop; PortStyle: Bus Version
pins: C (in), D[7..0] (in), Q[7..0] (out)

## FD8CB
designator U?
8-Bit D-Type Flip-Flop with Asynchronous Clear, Bus Version; SubClass: FD; ClockTrigger: Rising; PortSize: 8; ArchiveName: GENERIC; VHDLIB_SIM: GENERIC_LIB; Published: 29-Jan-2004; Publisher: Altium Limited; LastRevisionNo: 1.00.00; HelpURL: CR0118 FPGA Generic Library Guide.pdf#page=172; ComponentLink1URL: CR0133 FPGA Flip Flop Resource Usage.pdf#page=70; ComponentLink1Description: Core &Resource Usage; FunctionalClass: Flip-Flop; Reset: Asynchronous; PortStyle: Bus Version
pins: C (in), CLR (in), D[7..0] (in), Q[7..0] (out)

## FD8CEB
designator U?
8-Bit D-Type Flip-Flop with Clock Enable and Asynchronous Clear, Bus Version; XilinxEquivalent: FD8CE; SubClass: FD; ClockTrigger: Rising; Enable: High; PortSize: 8; ArchiveName: GENERIC; VHDLIB_SIM: GENERIC_LIB; Published: 29-Jan-2004; Publisher: Altium Limited; LastRevisionNo: 1.00.00; HelpURL: CR0118 FPGA Generic Library Guide.pdf#page=174; ComponentLink1URL: CR0133 FPGA Flip Flop Resource Usage.pdf#page=71; ComponentLink1Description: Core &Resource Usage; FunctionalClass: Flip-Flop; Reset: Asynchronous; PortStyle: Bus Version
pins: C (in), CE (in), CLR (in), D[7..0] (in), Q[7..0] (out)

## FD8CES
designator U?
8-Bit D-Type Flip-Flop with Clock Enable and Asynchronous Clear, Single Pin Version; SubClass: FD; ClockTrigger: Rising; Enable: High; PortSize: 8; ArchiveName: GENERIC; VHDLIB_SIM: GENERIC_LIB; Published: 29-Jan-2004; Publisher: Altium Limited; LastRevisionNo: 1.00.00; HelpURL: CR0118 FPGA Generic Library Guide.pdf#page=174; ComponentLink1URL: CR0133 FPGA Flip Flop Resource Usage.pdf#page=72; ComponentLink1Description: Core &Resource Usage; FunctionalClass: Flip-Flop; Reset: Asynchronous; PortStyle: Single Pin Version
pins: C (in), CE (in), CLR (in), D0 (in), D1 (in), D2 (in), D3 (in), D4 (in), D5 (in), D6 (in), D7 (in), Q0 (out), Q1 (out), Q2 (out), Q3 (out), Q4 (out), Q5 (out), Q6 (out), Q7 (out)

## FD8CPB
designator U?
8-Bit D-Type Flip-Flop with Asynchronous Preset and Clear, Bus Version; SubClass: FD; ClockTrigger: Rising; PortSize: 8; ArchiveName: GENERIC; VHDLIB_SIM: GENERIC_LIB; Published: 29-Jan-2004; Publisher: Altium Limited; LastRevisionNo: 1.00.00; HelpURL: CR0118 FPGA Generic Library Guide.pdf#page=179; ComponentLink1URL: CR0133 FPGA Flip Flop Resource Usage.pdf#page=73; ComponentLink1Description: Core &Resource Usage; FunctionalClass: Flip-Flop; Reset: Asynchronous; Set: Asynchronous; PortStyle: Bus Version
pins: C (in), CLR (in), D[7..0] (in), PRE (in), Q[7..0] (out)

## FD8CPEB
designator U?
8-Bit D-Type Flip-Flop with Clock Enable and Asynchronous Preset and Clear, Bus Version; SubClass: FD; ClockTrigger: Rising; Enable: High; PortSize: 8; ArchiveName: GENERIC; VHDLIB_SIM: GENERIC_LIB; Published: 29-Jan-2004; Publisher: Altium Limited; LastRevisionNo: 1.00.00; HelpURL: CR0118 FPGA Generic Library Guide.pdf#page=182; ComponentLink1URL: CR0133 FPGA Flip Flop Resource Usage.pdf#page=74; ComponentLink1Description: Core &Resource Usage; FunctionalClass: Flip-Flop; Reset: Asynchronous; Set: Asynchronous; PortStyle: Bus Version
pins: C (in), CE (in), CLR (in), D[7..0] (in), PRE (in), Q[7..0] (out)

## FD8CPES
designator U?
8-Bit D-Type Flip-Flop with Clock Enable and Asynchronous Preset and Clear, Single Pin Version; SubClass: FD; ClockTrigger: Rising; Enable: High; PortSize: 8; ArchiveName: GENERIC; VHDLIB_SIM: GENERIC_LIB; Published: 29-Jan-2004; Publisher: Altium Limited; LastRevisionNo: 1.00.00; HelpURL: CR0118 FPGA Generic Library Guide.pdf#page=182; ComponentLink1URL: CR0133 FPGA Flip Flop Resource Usage.pdf#page=75; ComponentLink1Description: Core &Resource Usage; FunctionalClass: Flip-Flop; Reset: Asynchronous; Set: Asynchronous; PortStyle: Single Pin Version
pins: C (in), CE (in), CLR (in), D0 (in), D1 (in), D2 (in), D3 (in), D4 (in), D5 (in), D6 (in), D7 (in), PRE (in), Q0 (out), Q1 (out), Q2 (out), Q3 (out), Q4 (out), Q5 (out), Q6 (out), Q7 (out)

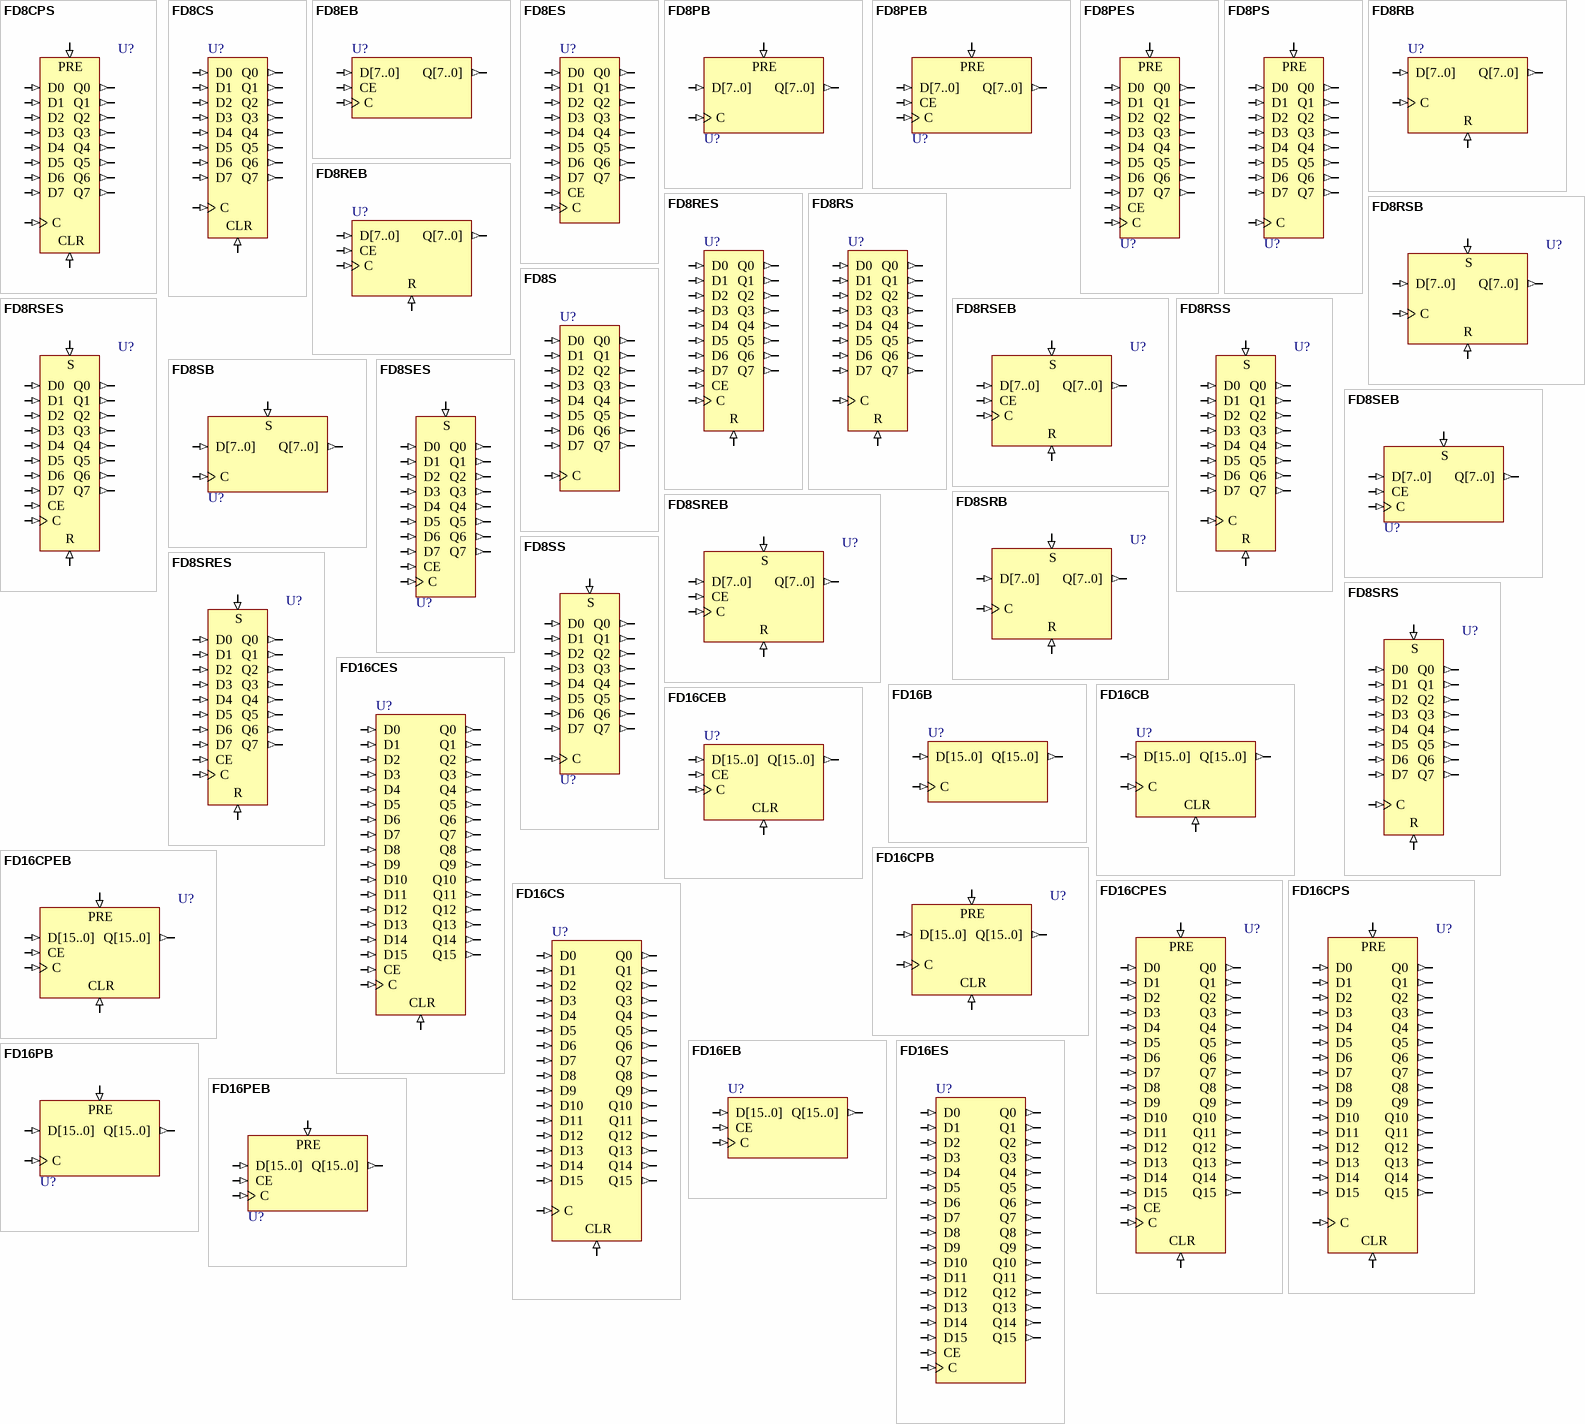
[diagram p12: symbols FD8CPS to FD16PEB]

## FD8CPS
designator U?
8-Bit D-Type Flip-Flop with Asynchronous Preset and Clear, Single Pin Version; SubClass: FD; ClockTrigger: Rising; PortSize: 8; ArchiveName: GENERIC; VHDLIB_SIM: GENERIC_LIB; Published: 29-Jan-2004; Publisher: Altium Limited; LastRevisionNo: 1.00.00; HelpURL: CR0118 FPGA Generic Library Guide.pdf#page=179; ComponentLink1URL: CR0133 FPGA Flip Flop Resource Usage.pdf#page=76; ComponentLink1Description: Core &Resource Usage; FunctionalClass: Flip-Flop; Reset: Asynchronous; Set: Asynchronous; PortStyle: Single Pin Version
pins: C (in), CLR (in), D0 (in), D1 (in), D2 (in), D3 (in), D4 (in), D5 (in), D6 (in), D7 (in), PRE (in), Q0 (out), Q1 (out), Q2 (out), Q3 (out), Q4 (out), Q5 (out), Q6 (out), Q7 (out)

## FD8CS
designator U?
8-Bit D-Type Flip-Flop with Asynchronous Clear, Single Pin Version; SubClass: FD; ClockTrigger: Rising; PortSize: 8; ArchiveName: GENERIC; VHDLIB_SIM: GENERIC_LIB; Published: 29-Jan-2004; Publisher: Altium Limited; LastRevisionNo: 1.00.00; HelpURL: CR0118 FPGA Generic Library Guide.pdf#page=172; ComponentLink1URL: CR0133 FPGA Flip Flop Resource Usage.pdf#page=77; ComponentLink1Description: Core &Resource Usage; FunctionalClass: Flip-Flop; Reset: Asynchronous; PortStyle: Single Pin Version
pins: C (in), CLR (in), D0 (in), D1 (in), D2 (in), D3 (in), D4 (in), D5 (in), D6 (in), D7 (in), Q0 (out), Q1 (out), Q2 (out), Q3 (out), Q4 (out), Q5 (out), Q6 (out), Q7 (out)

## FD8EB
designator U?
8-Bit D Flip-Flop with Clock Enable, Bus Version; SubClass: FD; ClockTrigger: Rising; Enable: High; PortSize: 8; ArchiveName: GENERIC; VHDLIB_SIM: GENERIC_LIB; Published: 29-Jan-2004; Publisher: Altium Limited; LastRevisionNo: 1.00.00; HelpURL: CR0118 FPGA Generic Library Guide.pdf#page=187; ComponentLink1URL: CR0133 FPGA Flip Flop Resource Usage.pdf#page=78; ComponentLink1Description: Core &Resource Usage; FunctionalClass: Flip-Flop; PortStyle: Bus Version
pins: C (in), CE (in), D[7..0] (in), Q[7..0] (out)

## FD8ES
designator U?
8-Bit D Flip-Flop with Clock Enable, Single Pin Version; SubClass: FD; ClockTrigger: Rising; Enable: High; PortSize: 8; ArchiveName: GENERIC; VHDLIB_SIM: GENERIC_LIB; Published: 29-Jan-2004; Publisher: Altium Limited; LastRevisionNo: 1.00.00; HelpURL: CR0118 FPGA Generic Library Guide.pdf#page=187; ComponentLink1URL: CR0133 FPGA Flip Flop Resource Usage.pdf#page=79; ComponentLink1Description: Core &Resource Usage; FunctionalClass: Flip-Flop; PortStyle: Single Pin Version
pins: C (in), CE (in), D0 (in), D1 (in), D2 (in), D3 (in), D4 (in), D5 (in), D6 (in), D7 (in), Q0 (out), Q1 (out), Q2 (out), Q3 (out), Q4 (out), Q5 (out), Q6 (out), Q7 (out)

## FD8PB
designator U?
8-Bit D-Type Flip-Flop with Asynchronous Preset, Bus Version; SubClass: FD; ClockTrigger: Rising; PortSize: 8; ArchiveName: GENERIC; VHDLIB_SIM: GENERIC_LIB; Published: 29-Jan-2004; Publisher: Altium Limited; LastRevisionNo: 1.00.00; HelpURL: CR0118 FPGA Generic Library Guide.pdf#page=191; ComponentLink1URL: CR0133 FPGA Flip Flop Resource Usage.pdf#page=80; ComponentLink1Description: Core &Resource Usage; FunctionalClass: Flip-Flop; Set: Asynchronous; PortStyle: Bus Version
pins: C (in), D[7..0] (in), PRE (in), Q[7..0] (out)

## FD8PEB
designator U?
8-Bit D-Type Flip-Flop with Clock Enable and Asynchronous Preset, Bus Version; SubClass: FD; ClockTrigger: Rising; Enable: High; PortSize: 8; ArchiveName: GENERIC; VHDLIB_SIM: GENERIC_LIB; Published: 29-Jan-2004; Publisher: Altium Limited; LastRevisionNo: 1.00.00; HelpURL: CR0118 FPGA Generic Library Guide.pdf#page=193; ComponentLink1URL: CR0133 FPGA Flip Flop Resource Usage.pdf#page=81; ComponentLink1Description: Core &Resource Usage; FunctionalClass: Flip-Flop; Set: Asynchronous; PortStyle: Bus Version
pins: C (in), CE (in), D[7..0] (in), PRE (in), Q[7..0] (out)

## FD8PES
designator U?
8-Bit D-Type Flip-Flop with Clock Enable and Asynchronous Preset, Single Pin Version; SubClass: FD; ClockTrigger: Rising; Enable: High; PortSize: 8; ArchiveName: GENERIC; VHDLIB_SIM: GENERIC_LIB; Published: 29-Jan-2004; Publisher: Altium Limited; LastRevisionNo: 1.00.00; HelpURL: CR0118 FPGA Generic Library Guide.pdf#page=193; ComponentLink1URL: CR0133 FPGA Flip Flop Resource Usage.pdf#page=82; ComponentLink1Description: Core &Resource Usage; FunctionalClass: Flip-Flop; Set: Asynchronous; PortStyle: Single Pin Version
pins: C (in), CE (in), D0 (in), D1 (in), D2 (in), D3 (in), D4 (in), D5 (in), D6 (in), D7 (in), PRE (in), Q0 (out), Q1 (out), Q2 (out), Q3 (out), Q4 (out), Q5 (out), Q6 (out), Q7 (out)

## FD8PS
designator U?
8-Bit D-Type Flip-Flop with Asynchronous Preset, Single Pin Version; SubClass: FD; ClockTrigger: Rising; PortSize: 8; ArchiveName: GENERIC; VHDLIB_SIM: GENERIC_LIB; Published: 29-Jan-2004; Publisher: Altium Limited; LastRevisionNo: 1.00.00; HelpURL: CR0118 FPGA Generic Library Guide.pdf#page=191; ComponentLink1URL: CR0133 FPGA Flip Flop Resource Usage.pdf#page=83; ComponentLink1Description: Core &Resource Usage; FunctionalClass: Flip-Flop; Set: Asynchronous; PortStyle: Single Pin Version
pins: C (in), D0 (in), D1 (in), D2 (in), D3 (in), D4 (in), D5 (in), D6 (in), D7 (in), PRE (in), Q0 (out), Q1 (out), Q2 (out), Q3 (out), Q4 (out), Q5 (out), Q6 (out), Q7 (out)

## FD8RB
designator U?
8-Bit D-Type Flip-Flop with Synchronous Reset, Bus Version; SubClass: FD; ClockTrigger: Rising; PortSize: 8; ArchiveName: GENERIC; VHDLIB_SIM: GENERIC_LIB; Published: 29-Jan-2004; Publisher: Altium Limited; LastRevisionNo: 1.00.00; HelpURL: CR0118 FPGA Generic Library Guide.pdf#page=198; ComponentLink1URL: CR0133 FPGA Flip Flop Resource Usage.pdf#page=84; ComponentLink1Description: Core &Resource Usage; FunctionalClass: Flip-Flop; Reset: Synchronous; PortStyle: Bus Version
pins: C (in), D[7..0] (in), Q[7..0] (out), R (in)

## FD8REB
designator U?
8-Bit D-Type Flip-Flop with Clock Enable and Synchronous Reset, Bus Version; SubClass: FD; ClockTrigger: Rising; Enable: High; PortSize: 8; ArchiveName: GENERIC; VHDLIB_SIM: GENERIC_LIB; Published: 29-Jan-2004; Publisher: Altium Limited; LastRevisionNo: 1.00.00; HelpURL: CR0118 FPGA Generic Library Guide.pdf#page=200; ComponentLink1URL: CR0133 FPGA Flip Flop Resource Usage.pdf#page=85; ComponentLink1Description: Core &Resource Usage; FunctionalClass: Flip-Flop; Reset: Synchronous; PortStyle: Bus Version
pins: C (in), CE (in), D[7..0] (in), Q[7..0] (out), R (in)

## FD8RES
designator U?
8-Bit D-Type Flip-Flop with Clock Enable and Synchronous Reset, Single Pin Version; SubClass: FD; ClockTrigger: Rising; Enable: High; PortSize: 8; ArchiveName: GENERIC; VHDLIB_SIM: GENERIC_LIB; Published: 29-Jan-2004; Publisher: Altium Limited; LastRevisionNo: 1.00.00; HelpURL: CR0118 FPGA Generic Library Guide.pdf#page=200; ComponentLink1URL: CR0133 FPGA Flip Flop Resource Usage.pdf#page=86; ComponentLink1Description: Core &Resource Usage; FunctionalClass: Flip-Flop; Reset: Synchronous; PortStyle: Single Pin Version
pins: C (in), CE (in), D0 (in), D1 (in), D2 (in), D3 (in), D4 (in), D5 (in), D6 (in), D7 (in), Q0 (out), Q1 (out), Q2 (out), Q3 (out), Q4 (out), Q5 (out), Q6 (out), Q7 (out), R (in)

## FD8RS
designator U?
8-Bit D-Type Flip-Flop with Synchronous Reset, Single Pin Version; SubClass: FD; ClockTrigger: Rising; PortSize: 8; ArchiveName: GENERIC; VHDLIB_SIM: GENERIC_LIB; Published: 29-Jan-2004; Publisher: Altium Limited; LastRevisionNo: 1.00.00; HelpURL: CR0118 FPGA Generic Library Guide.pdf#page=198; ComponentLink1URL: CR0133 FPGA Flip Flop Resource Usage.pdf#page=87; ComponentLink1Description: Core &Resource Usage; FunctionalClass: Flip-Flop; Reset: Synchronous; PortStyle: Single Pin Version
pins: C (in), D0 (in), D1 (in), D2 (in), D3 (in), D4 (in), D5 (in), D6 (in), D7 (in), Q0 (out), Q1 (out), Q2 (out), Q3 (out), Q4 (out), Q5 (out), Q6 (out), Q7 (out), R (in)

## FD8RSB
designator U?
8-Bit D-Type Flip-Flop with Synchronous Reset and Set, Bus Version; SubClass: FD; ClockTrigger: Rising; PortSize: 8; ArchiveName: GENERIC; VHDLIB_SIM: GENERIC_LIB; Published: 29-Jan-2004; Publisher: Altium Limited; LastRevisionNo: 1.00.00; HelpURL: CR0118 FPGA Generic Library Guide.pdf#page=205; ComponentLink1URL: CR0133 FPGA Flip Flop Resource Usage.pdf#page=88; ComponentLink1Description: Core &Resource Usage; FunctionalClass: Flip-Flop; Reset: Synchronous; Set: Synchronous; PortStyle: Bus Version
pins: C (in), D[7..0] (in), Q[7..0] (out), R (in), S (in)

## FD8RSEB
designator U?
8-Bit D-Type Flip-Flop with Synchronous Reset and Set and Clock Enable, Bus Version; SubClass: FD; ClockTrigger: Rising; Enable: High; PortSize: 8; ArchiveName: GENERIC; VHDLIB_SIM: GENERIC_LIB; Published: 29-Jan-2004; Publisher: Altium Limited; LastRevisionNo: 1.00.00; HelpURL: CR0118 FPGA Generic Library Guide.pdf#page=208; ComponentLink1URL: CR0133 FPGA Flip Flop Resource Usage.pdf#page=89; ComponentLink1Description: Core &Resource Usage; FunctionalClass: Flip-Flop; Reset: Synchronous; Set: Synchronous; PortStyle: Bus Version
pins: C (in), CE (in), D[7..0] (in), Q[7..0] (out), R (in), S (in)

## FD8RSES
designator U?
8-Bit D-Type Flip-Flop with Synchronous Reset and Set and Clock Enable, Single Pin Version; SubClass: FD; ClockTrigger: Rising; Enable: High; PortSize: 8; ArchiveName: GENERIC; VHDLIB_SIM: GENERIC_LIB; Published: 29-Jan-2004; Publisher: Altium Limited; LastRevisionNo: 1.00.00; HelpURL: CR0118 FPGA Generic Library Guide.pdf#page=208; ComponentLink1URL: CR0133 FPGA Flip Flop Resource Usage.pdf#page=90; ComponentLink1Description: Core &Resource Usage; FunctionalClass: Flip-Flop; Reset: Synchronous; Set: Synchronous; PortStyle: Single Pin Version
pins: C (in), CE (in), D0 (in), D1 (in), D2 (in), D3 (in), D4 (in), D5 (in), D6 (in), D7 (in), Q0 (out), Q1 (out), Q2 (out), Q3 (out), Q4 (out), Q5 (out), Q6 (out), Q7 (out), R (in), S (in)

## FD8RSS
designator U?
8-Bit D-Type Flip-Flop with Synchronous Reset and Set, Single Pin Version; SubClass: FD; ClockTrigger: Rising; PortSize: 8; ArchiveName: GENERIC; VHDLIB_SIM: GENERIC_LIB; Published: 29-Jan-2004; Publisher: Altium Limited; LastRevisionNo: 1.00.00; HelpURL: CR0118 FPGA Generic Library Guide.pdf#page=205; ComponentLink1URL: CR0133 FPGA Flip Flop Resource Usage.pdf#page=91; ComponentLink1Description: Core &Resource Usage; FunctionalClass: Flip-Flop; Reset: Synchronous; Set: Synchronous; PortStyle: Single Pin Version
pins: C (in), D0 (in), D1 (in), D2 (in), D3 (in), D4 (in), D5 (in), D6 (in), D7 (in), Q0 (out), Q1 (out), Q2 (out), Q3 (out), Q4 (out), Q5 (out), Q6 (out), Q7 (out), R (in), S (in)

## FD8S
designator U?
8-Bit D-Type Flip-Flop, Single Pin Version; SubClass: FD; ClockTrigger: Rising; PortSize: 8; ArchiveName: GENERIC; VHDLIB_SIM: GENERIC_LIB; Published: 29-Jan-2004; Publisher: Altium Limited; LastRevisionNo: 1.00.00; HelpURL: CR0118 FPGA Generic Library Guide.pdf#page=170; ComponentLink1URL: CR0133 FPGA Flip Flop Resource Usage.pdf#page=92; ComponentLink1Description: Core &Resource Usage; FunctionalClass: Flip-Flop; PortStyle: Single Pin Version
pins: C (in), D0 (in), D1 (in), D2 (in), D3 (in), D4 (in), D5 (in), D6 (in), D7 (in), Q0 (out), Q1 (out), Q2 (out), Q3 (out), Q4 (out), Q5 (out), Q6 (out), Q7 (out)

## FD8SB
designator U?
8-Bit D-Type Flip-Flop with Synchronous Set, Bus Version; SubClass: FD; ClockTrigger: Rising; PortSize: 8; ArchiveName: GENERIC; VHDLIB_SIM: GENERIC_LIB; Published: 29-Jan-2004; Publisher: Altium Limited; LastRevisionNo: 1.00.00; HelpURL: CR0118 FPGA Generic Library Guide.pdf#page=213; ComponentLink1URL: CR0133 FPGA Flip Flop Resource Usage.pdf#page=93; ComponentLink1Description: Core &Resource Usage; FunctionalClass: Flip-Flop; Set: Synchronous; PortStyle: Bus Version
pins: C (in), D[7..0] (in), Q[7..0] (out), S (in)

## FD8SEB
designator U?
8-Bit D-Type Flip-Flop with Clock Enable and Synchronous Set, Bus Version; SubClass: FD; ClockTrigger: Rising; Enable: High; PortSize: 8; ArchiveName: GENERIC; VHDLIB_SIM: GENERIC_LIB; Published: 29-Jan-2004; Publisher: Altium Limited; LastRevisionNo: 1.00.00; HelpURL: CR0118 FPGA Generic Library Guide.pdf#page=215; ComponentLink1URL: CR0133 FPGA Flip Flop Resource Usage.pdf#page=94; ComponentLink1Description: Core &Resource Usage; FunctionalClass: Flip-Flop; Set: Synchronous; PortStyle: Bus Version
pins: C (in), CE (in), D[7..0] (in), Q[7..0] (out), S (in)

## FD8SES
designator U?
8-Bit D-Type Flip-Flop with Clock Enable and Synchronous Set, Single Pin Version; SubClass: FD; ClockTrigger: Rising; Enable: High; PortSize: 8; ArchiveName: GENERIC; VHDLIB_SIM: GENERIC_LIB; Published: 29-Jan-2004; Publisher: Altium Limited; LastRevisionNo: 1.00.00; HelpURL: CR0118 FPGA Generic Library Guide.pdf#page=215; ComponentLink1URL: CR0133 FPGA Flip Flop Resource Usage.pdf#page=95; ComponentLink1Description: Core &Resource Usage; FunctionalClass: Flip-Flop; Set: Synchronous; PortStyle: Single Pin Version
pins: C (in), CE (in), D0 (in), D1 (in), D2 (in), D3 (in), D4 (in), D5 (in), D6 (in), D7 (in), Q0 (out), Q1 (out), Q2 (out), Q3 (out), Q4 (out), Q5 (out), Q6 (out), Q7 (out), S (in)

## FD8SRB
designator U?
8-Bit D-Type Flip-Flop with Synchronous Set and Reset, Bus Version; SubClass: FD; ClockTrigger: Rising; PortSize: 8; ArchiveName: GENERIC; VHDLIB_SIM: GENERIC_LIB; Published: 29-Jan-2004; Publisher: Altium Limited; LastRevisionNo: 1.00.00; HelpURL: CR0118 FPGA Generic Library Guide.pdf#page=220; ComponentLink1URL: CR0133 FPGA Flip Flop Resource Usage.pdf#page=96; ComponentLink1Description: Core &Resource Usage; FunctionalClass: Flip-Flop; Reset: Synchronous; Set: Synchronous; PortStyle: Bus Version
pins: C (in), D[7..0] (in), Q[7..0] (out), R (in), S (in)

## FD8SREB
designator U?
8-Bit D-Type Flip-Flop with Synchronous Set and Reset and Clock Enable, Bus Version; SubClass: FD; ClockTrigger: Rising; Enable: High; PortSize: 8; ArchiveName: GENERIC; VHDLIB_SIM: GENERIC_LIB; Published: 29-Jan-2004; Publisher: Altium Limited; LastRevisionNo: 1.00.00; HelpURL: CR0118 FPGA Generic Library Guide.pdf#page=223; ComponentLink1URL: CR0133 FPGA Flip Flop Resource Usage.pdf#page=97; ComponentLink1Description: Core &Resource Usage; FunctionalClass: Flip-Flop; Reset: Synchronous; Set: Synchronous; PortStyle: Bus Version
pins: C (in), CE (in), D[7..0] (in), Q[7..0] (out), R (in), S (in)

## FD8SRES
designator U?
8-Bit D-Type Flip-Flop with Synchronous Set and Reset and Clock Enable, Single Pin Version; SubClass: FD; ClockTrigger: Rising; Enable: High; PortSize: 8; ArchiveName: GENERIC; VHDLIB_SIM: GENERIC_LIB; Published: 29-Jan-2004; Publisher: Altium Limited; LastRevisionNo: 1.00.00; HelpURL: CR0118 FPGA Generic Library Guide.pdf#page=223; ComponentLink1URL: CR0133 FPGA Flip Flop Resource Usage.pdf#page=98; ComponentLink1Description: Core &Resource Usage; FunctionalClass: Flip-Flop; Reset: Synchronous; Set: Synchronous; PortStyle: Single Pin Version
pins: C (in), CE (in), D0 (in), D1 (in), D2 (in), D3 (in), D4 (in), D5 (in), D6 (in), D7 (in), Q0 (out), Q1 (out), Q2 (out), Q3 (out), Q4 (out), Q5 (out), Q6 (out), Q7 (out), R (in), S (in)

## FD8SRS
designator U?
8-Bit D-Type Flip-Flop with Synchronous Set and Reset, Single Pin Version; SubClass: FD; ClockTrigger: Rising; PortSize: 8; ArchiveName: GENERIC; VHDLIB_SIM: GENERIC_LIB; Published: 29-Jan-2004; Publisher: Altium Limited; LastRevisionNo: 1.00.00; HelpURL: CR0118 FPGA Generic Library Guide.pdf#page=220; ComponentLink1URL: CR0133 FPGA Flip Flop Resource Usage.pdf#page=99; ComponentLink1Description: Core &Resource Usage; FunctionalClass: Flip-Flop; Reset: Synchronous; Set: Synchronous; PortStyle: Single Pin Version
pins: C (in), D0 (in), D1 (in), D2 (in), D3 (in), D4 (in), D5 (in), D6 (in), D7 (in), Q0 (out), Q1 (out), Q2 (out), Q3 (out), Q4 (out), Q5 (out), Q6 (out), Q7 (out), R (in), S (in)

## FD8SS
designator U?
8-Bit D-Type Flip-Flop with Synchronous Set, Single Pin Version; SubClass: FD; ClockTrigger: Rising; PortSize: 8; ArchiveName: GENERIC; VHDLIB_SIM: GENERIC_LIB; Published: 29-Jan-2004; Publisher: Altium Limited; LastRevisionNo: 1.00.00; HelpURL: CR0118 FPGA Generic Library Guide.pdf#page=213; ComponentLink1URL: CR0133 FPGA Flip Flop Resource Usage.pdf#page=100; ComponentLink1Description: Core &Resource Usage; FunctionalClass: Flip-Flop; Set: Synchronous; PortStyle: Single Pin Version
pins: C (in), D0 (in), D1 (in), D2 (in), D3 (in), D4 (in), D5 (in), D6 (in), D7 (in), Q0 (out), Q1 (out), Q2 (out), Q3 (out), Q4 (out), Q5 (out), Q6 (out), Q7 (out), S (in)

## FD16B
designator U?
16-Bit D-Type Flip-Flop, Bus Version; SubClass: FD; ClockTrigger: Rising; PortSize: 16; ArchiveName: GENERIC; VHDLIB_SIM: GENERIC_LIB; Published: 29-Jan-2004; Publisher: Altium Limited; LastRevisionNo: 1.00.00; HelpURL: CR0118 FPGA Generic Library Guide.pdf#page=170; ComponentLink1URL: CR0133 FPGA Flip Flop Resource Usage.pdf#page=101; ComponentLink1Description: Core &Resource Usage; FunctionalClass: Flip-Flop; PortStyle: Bus Version
pins: C (in), D[15..0] (in), Q[15..0] (out)

## FD16CB
designator U?
16-Bit D-Type Flip-Flop with Asynchronous Clear, Bus Version; SubClass: FD; ClockTrigger: Rising; PortSize: 16; ArchiveName: GENERIC; VHDLIB_SIM: GENERIC_LIB; Published: 29-Jan-2004; Publisher: Altium Limited; LastRevisionNo: 1.00.00; HelpURL: CR0118 FPGA Generic Library Guide.pdf#page=172; ComponentLink1URL: CR0133 FPGA Flip Flop Resource Usage.pdf#page=102; ComponentLink1Description: Core &Resource Usage; FunctionalClass: Flip-Flop; Reset: Asynchronous; PortStyle: Bus Version
pins: C (in), CLR (in), D[15..0] (in), Q[15..0] (out)

## FD16CEB
designator U?
16-Bit D-Type Flip-Flop with Clock Enable and Asynchronous Clear, Bus Version; SubClass: FD; ClockTrigger: Rising; Enable: High; PortSize: 16; ArchiveName: GENERIC; VHDLIB_SIM: GENERIC_LIB; Published: 29-Jan-2004; Publisher: Altium Limited; LastRevisionNo: 1.00.00; HelpURL: CR0118 FPGA Generic Library Guide.pdf#page=174; ComponentLink1URL: CR0133 FPGA Flip Flop Resource Usage.pdf#page=103; ComponentLink1Description: Core &Resource Usage; FunctionalClass: Flip-Flop; Reset: Asynchronous; PortStyle: Bus Version
pins: C (in), CE (in), CLR (in), D[15..0] (in), Q[15..0] (out)

## FD16CES
designator U?
16-Bit D-Type Flip-Flop with Clock Enable and Asynchronous Clear, Single Pin Version; SubClass: FD; ClockTrigger: Rising; Enable: High; PortSize: 16; ArchiveName: GENERIC; VHDLIB_SIM: GENERIC_LIB; Published: 29-Jan-2004; Publisher: Altium Limited; LastRevisionNo: 1.00.00; HelpURL: CR0118 FPGA Generic Library Guide.pdf#page=174; ComponentLink1URL: CR0133 FPGA Flip Flop Resource Usage.pdf#page=104; ComponentLink1Description: Core &Resource Usage; FunctionalClass: Flip-Flop; Reset: Asynchronous; PortStyle: Single Pin Version
pins: C (in), CE (in), CLR (in), D0 (in), D1 (in), D2 (in), D3 (in), D4 (in), D5 (in), D6 (in), D7 (in), D8 (in), D9 (in), D10 (in), D11 (in), D12 (in), D13 (in), D14 (in), D15 (in), Q0 (out), Q1 (out), Q2 (out), Q3 (out), Q4 (out), Q5 (out), Q6 (out), Q7 (out), Q8 (out), Q9 (out), Q10 (out), Q11 (out), Q12 (out), Q13 (out), Q14 (out), Q15 (out)

## FD16CPB
designator U?
16-Bit D-Type Flip-Flop with Asynchronous Preset and Clear, Bus Version; SubClass: FD; ClockTrigger: Rising; PortSize: 16; ArchiveName: GENERIC; VHDLIB_SIM: GENERIC_LIB; Published: 29-Jan-2004; Publisher: Altium Limited; LastRevisionNo: 1.00.00; HelpURL: CR0118 FPGA Generic Library Guide.pdf#page=179; ComponentLink1URL: CR0133 FPGA Flip Flop Resource Usage.pdf#page=105; ComponentLink1Description: Core &Resource Usage; FunctionalClass: Flip-Flop; Reset: Asynchronous; Set: Asynchronous; PortStyle: Bus Version
pins: C (in), CLR (in), D[15..0] (in), PRE (in), Q[15..0] (out)